# Altium footprint library SOT23-6.PcbLib: 1 footprints
Each footprint in its own frame and in the unit in brackets; x right, y up, seen from the top. Pads: shape width x height; smd on the part's side, far side on the other; paste and mask are expansions set on the pad; w line width, h text height; cw(c..) or ccw(c..) is an arc to the next point about the centre after c.
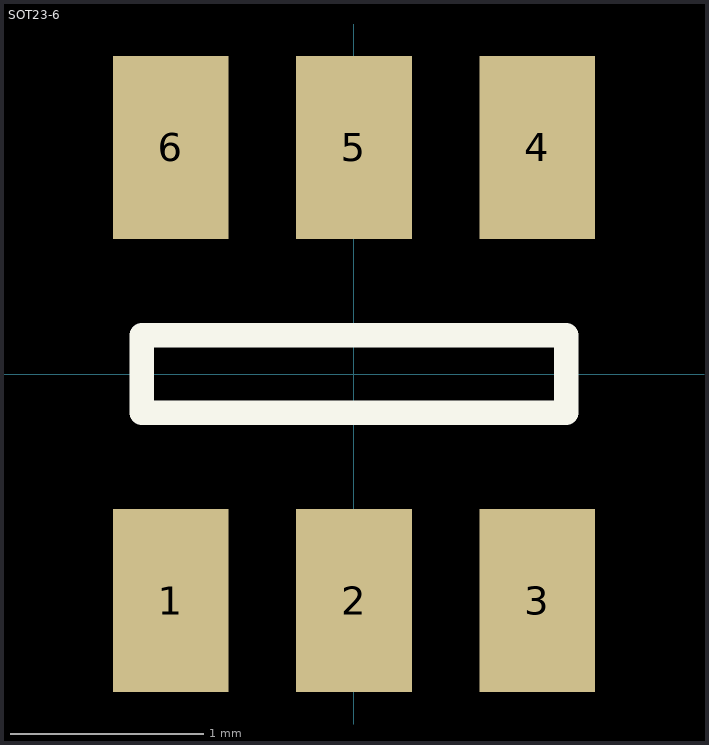
[diagram p0: the footprint, top view; thin cyan lines are the x and y axes]

## SOT23-6 [mm]
pads (6):
  rect 0.6x0.95 smd: 1(-0.95,-1.175) 2(0,-1.175) 3(0.95,-1.175) 4(0.95,1.175) 5(0,1.175) 6(-0.95,1.175)
Top Overlay:
  lines w0.127: -1.1,-0.2 -1.1,0.2 1.1,0.2 1.1,-0.2 -1.1,-0.2
  text "." at -1.857,-1.17 h0.38
3D body: height 1.3, standoff -0.1, extent -1.521,-1.518 1.527,1.482